# Altium footprint library IM_v1.0.PcbLib: 78 footprints (part 3 of 5)
Each footprint in its own frame and in the unit in brackets; x right, y up, seen from the top. Pads: shape width x height; smd on the part's side, far side on the other; paste and mask are expansions set on the pad; w line width, h text height; cw(c..) or ccw(c..) is an arc to the next point about the centre after c.
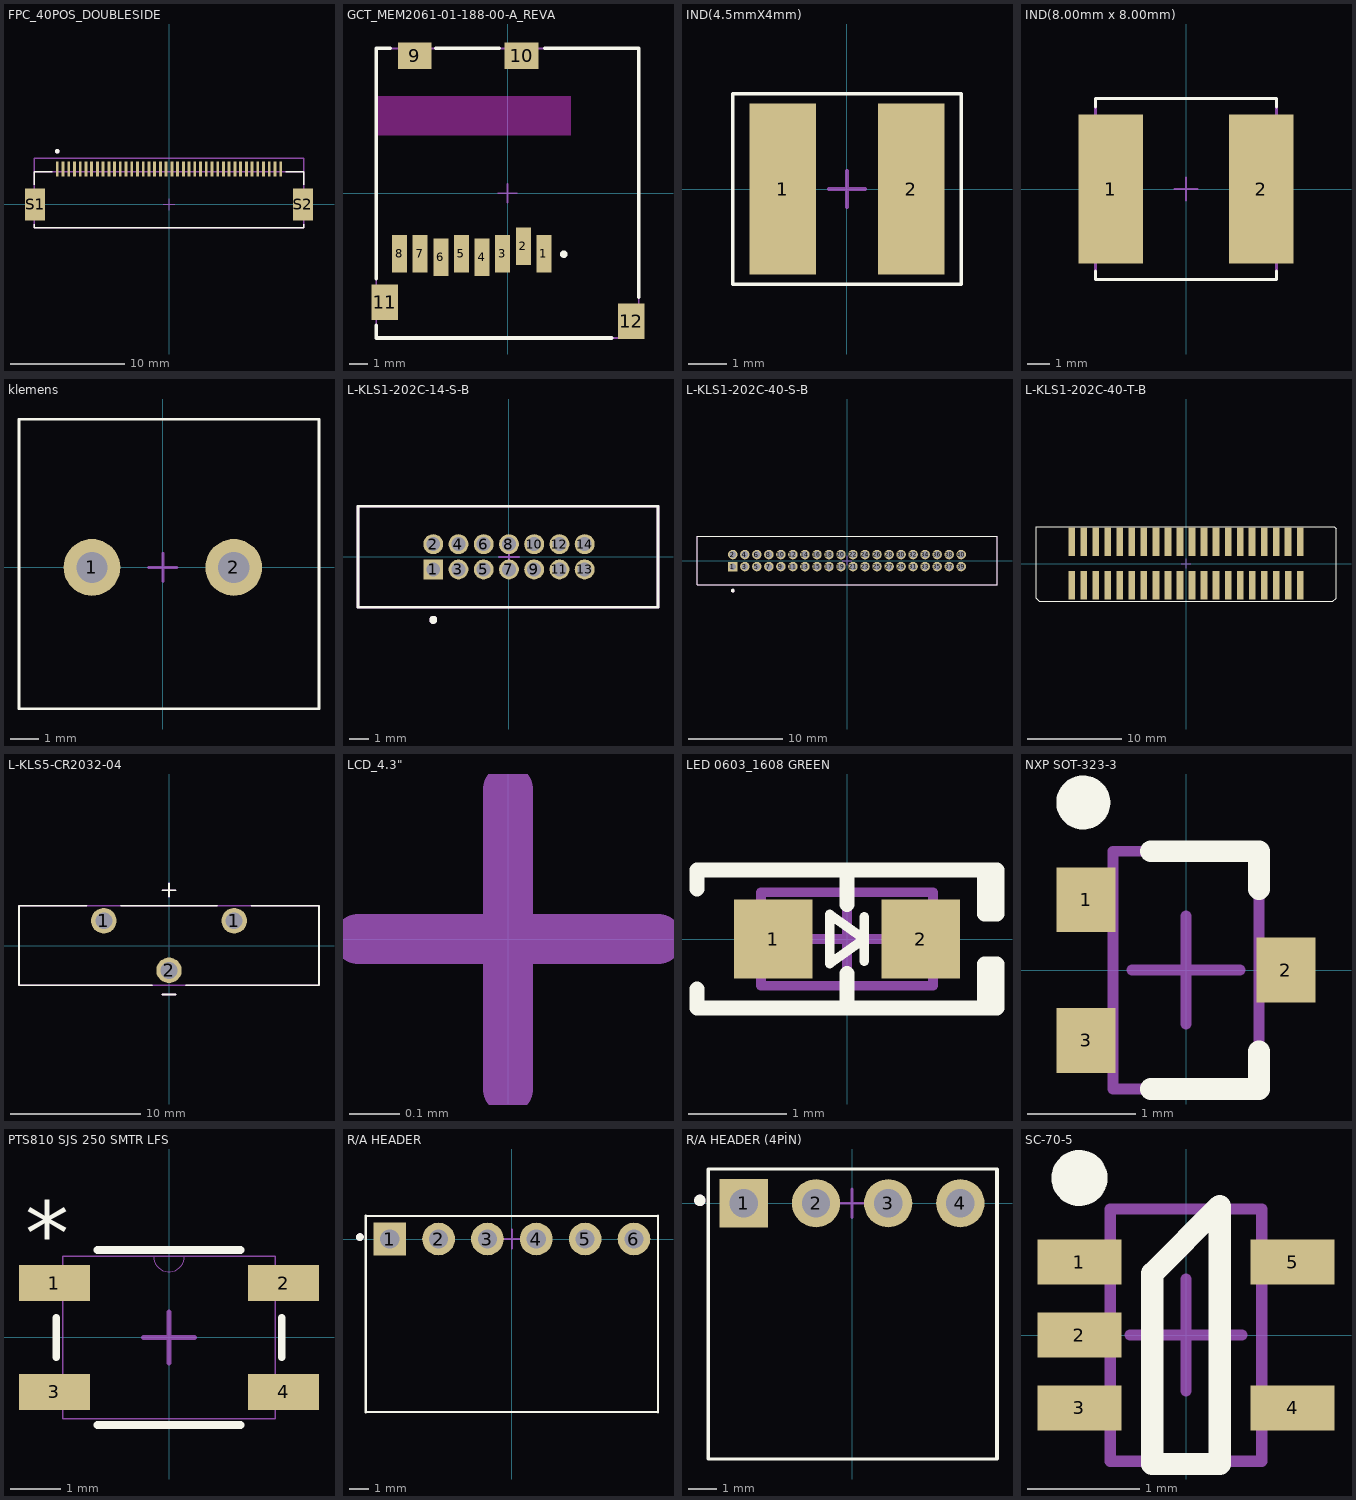
[diagram p2: the footprints below, top view; thin cyan lines are the x and y axes]

## FPC_40POS_DOUBLESIDE [mm]
pads (42):
  rect 0.25x1.3 smd: 1(-9.75,3.08) 2(-9.25,3.08) 3(-8.75,3.08) 4(-8.25,3.08) 5(-7.75,3.08) 6(-7.25,3.08) 7(-6.75,3.08) 8(-6.25,3.08) 9(-5.75,3.08) 10(-5.25,3.08) 11(-4.75,3.08) 12(-4.25,3.08) 13(-3.75,3.08) 14(-3.25,3.08) 15(-2.75,3.08) 16(-2.25,3.08) 17(-1.75,3.08) 18(-1.25,3.08) 19(-0.75,3.08) 20(-0.25,3.08) 21(0.25,3.08) 22(0.75,3.08) 23(1.25,3.08) 24(1.75,3.08) 25(2.25,3.08) 26(2.75,3.08) 27(3.25,3.08) 28(3.75,3.08) 29(4.25,3.08) 30(4.75,3.08) 31(5.25,3.08) 32(5.75,3.08) 33(6.25,3.08) 34(6.75,3.08) 35(7.25,3.08) 36(7.75,3.08) 37(8.25,3.08) 38(8.75,3.08) 39(9.25,3.08) 40(9.75,3.08)
  rect 1.73x2.8 smd: S1(-11.69,0) S2(11.69,0)
Top Overlay:
  circle w0.2: c-9.75,4.65 r0.1
  lines w0.127: -11.75,-1.72 -11.75,-2.05 11.75,-2.05 11.75,-1.72 ; -11.75,1.72 -11.75,2.85 -10.195,2.85 ; 10.195,2.85 11.75,2.85 11.75,1.72
Mechanical 13:
  lines w0.127: -11.75,2.85 -11.75,-2.05 11.75,-2.05 11.75,2.85 ; -11.75,2.85 11.75,2.85 ; -11.75,2.85 -11.75,4.02 11.75,4.02 11.75,2.85
Route Tool Path (Mech13):
  circle w0.2: c-9.75,4.65 r0.1
Mechanical 7:
  lines w0.1: -0.5,0 0.5,0 ; 0,-0.5 0,0.5
3D body "step_temp.STEP": height 3.21, standoff 0, extent -12.05,-2.05 12.05,3.27

## GCT_MEM2061-01-188-00-A_REVA [mm]
pads (12):
  rect 0.8x2 smd: 1(1.94,-3.225) 2(0.84,-2.825) 3(-0.26,-3.225) 4(-1.36,-3.425) 5(-2.46,-3.225) 6(-3.56,-3.425) 7(-4.66,-3.225) 8(-5.76,-3.225)
  rect 1.8x1.4 smd: 9(-4.95,7.325) 10(0.75,7.325)
  rect 1.4x1.9 smd: 11(-6.55,-5.825) 12(6.6,-6.825)
Top Overlay:
  circle w0.2: c3,-3.25 r0.1
  lines w0.2: -7,-7.05 -7,-7.725 5.55,-7.725 ; -7,-4.55 -7,7.725 -6.274,7.725 ; -3.81,7.725 -0.457,7.725 ; 1.981,7.725 7,7.725 7,-5.55
Keep-Out Layer:
  region: 3.37,3.1 -7.011,3.1 -7.011,5.175 3.37,5.175
Mechanical 13:
  lines w0.1: -7,-7.725 7,-7.725 7,7.725 -7,7.725 -7,-7.725
Mechanical 7:
  lines w0.1: -0.5,0 0.5,0 ; 0,-0.5 0,0.5
3D body "step_temp.STEP": height 1.88, standoff 0, extent -7.1,-7.725 7.1,7.725

## IND(4.5mmX4mm) [mm]
pads (2):
  rect 1.75x4.5 smd: 1(-1.687,0) 2(1.687,0)
Top Overlay:
  lines w0.1: -3,-2.5 -3,2.5 -2.75,2.5 3,2.5 3,-2.5 -3,-2.5
Mechanical 7:
  lines w0.1: -0.475,0 0.475,0 ; 0,-0.475 0,0.475
3D body "sdr0403.stp": height 3.2, standoff 0, extent -2.239,-2.25 2.239,2.25

## IND(8.00mm x 8.00mm) [mm]
pads (2):
  rect 2.85x6.6 smd: 1(-3.325,0) 2(3.325,0)
Top Overlay:
  lines w0.127: -4,-3.615 -4,-4 4,-4 4,-3.615 ; -4,3.615 -4,4 4,4 4,3.615
Mechanical 13:
  lines w0.127: -4,-4 4,-4 4,4 -4,4 -4,-4
Mechanical 7:
  lines w0.1: -0.5,0 0.5,0 ; 0,-0.5 0,0.5
3D body "step_temp.STEP": height 4, standoff 0, extent -4,-4 4,4

## klemens [mm]
pads (2):
  round 2 hole 1.1: 1(-2.5,0) 2(2.5,0)
Top Overlay:
  lines w0.1: -5.069,-4.981 -5.069,5.219 5.501,5.219 5.501,-4.981 -5.069,-4.981
Mechanical 7:
  lines w0.1: -0.5,0 0.5,0 ; 0,-0.5 0,0.5
3D body "DG128-5.0-02P-14-1000A&Z(H).stp": height 14, standoff -3.5, extent -5.069,-4.981 5.501,5.219

## L-KLS1-202C-14-S-B [mm]
pads (14):
  rect 1x1 hole 0.7: 1(-3.81,-0.635)
  round 1 hole 0.7: 2(-3.81,0.635) 3(-2.54,-0.635) 4(-2.54,0.635) 5(-1.27,-0.635) 6(-1.27,0.635) 7(0,-0.635) 8(0,0.635) 9(1.27,-0.635) 10(1.27,0.635) 11(2.54,-0.635) 12(2.54,0.635) 13(3.81,-0.635) 14(3.81,0.635)
Top Overlay:
  circle w0.2: c-3.81,-3.175 r0.1
  lines w0.127: -7.595,-2.55 -7.595,2.55 7.5,2.55 7.5,-2.55 -7.595,-2.55
Route Tool Path (Mech13):
  circle w0.2: c-3.81,-3.175 r0.1
  lines w0.127: -7.595,-2.55 -7.595,2.55 7.5,2.55 7.5,-2.55 -7.595,-2.55
Mechanical 7:
  lines w0.1: -0.5,0 0.5,0 ; 0,-0.5 0,0.5
3D body "20021511-00014T4LF.STEP": height 5.4, standoff -2.3, extent -7.595,-2.55 7.595,2.55

## L-KLS1-202C-40-S-B [mm]
pads (40):
  rect 1x1 hole 0.7: 1(-12.065,-0.635)
  round 1 hole 0.7: 2(-12.065,0.635) 3(-10.795,-0.635) 4(-10.795,0.635) 5(-9.525,-0.635) 6(-9.525,0.635) 7(-8.255,-0.635) 8(-8.255,0.635) 9(-6.985,-0.635) 10(-6.985,0.635) 11(-5.715,-0.635) 12(-5.715,0.635) 13(-4.445,-0.635) 14(-4.445,0.635) 15(-3.175,-0.635) 16(-3.175,0.635) 17(-1.905,-0.635) 18(-1.905,0.635) 19(-0.635,-0.635) 20(-0.635,0.635) 21(0.635,-0.635) 22(0.635,0.635) 23(1.905,-0.635) 24(1.905,0.635) 25(3.175,-0.635) 26(3.175,0.635) 27(4.445,-0.635) 28(4.445,0.635) 29(5.715,-0.635) 30(5.715,0.635) 31(6.985,-0.635) 32(6.985,0.635) 33(8.255,-0.635) 34(8.255,0.635) 35(9.525,-0.635) 36(9.525,0.635) 37(10.795,-0.635) 38(10.795,0.635) 39(12.065,-0.635) 40(12.065,0.635)
Top Overlay:
  circle w0.2: c-12.065,-3.175 r0.1
  lines w0.127: -15.85,-2.55 15.85,-2.55 15.85,2.55 -15.85,2.55 -15.85,-2.55
Route Tool Path (Mech13):
  circle w0.2: c-12.065,-3.175 r0.1
  lines w0.127: -15.85,-2.55 15.85,-2.55 15.85,2.55 -15.85,2.55 -15.85,-2.55
Mechanical 7:
  lines w0.1: -0.5,0 0.5,0 ; 0,-0.5 0,0.5
3D body "3220-40-0100-00.STEP": height 5.4, standoff -2.1, extent -15.85,-2.55 15.85,2.55

## L-KLS1-202C-40-T-B [mm] "BOX HEADER 40PIN(2x20) 1.27mm SMT V/T MALE BLACK"
pads (40):
  rect 0.7x3 smd: 1(-12.065,-2.3) 2(-12.065,2.3) 3(-10.795,-2.3) 4(-10.795,2.3) 5(-9.525,-2.3) 6(-9.525,2.3) 7(-8.255,-2.3) 8(-8.255,2.3) 9(-6.985,-2.3) 10(-6.985,2.3) 11(-5.715,-2.3) 12(-5.715,2.3) 13(-4.445,-2.3) 14(-4.445,2.3) 15(-3.175,-2.3) 16(-3.175,2.3) 17(-1.905,-2.3) 18(-1.905,2.3) 19(-0.635,-2.3) 20(-0.635,2.3) 21(0.635,-2.3) 22(0.635,2.3) 23(1.905,-2.3) 24(1.905,2.3) 25(3.175,-2.3) 26(3.175,2.3) 27(4.445,-2.3) 28(4.445,2.3) 29(5.715,-2.3) 30(5.715,2.3) 31(6.985,-2.3) 32(6.974,2.3) 33(8.255,-2.3) 34(8.255,2.3) 35(9.525,-2.3) 36(9.525,2.3) 37(10.795,-2.3) 38(10.784,2.3) 39(12.065,-2.3) 40(12.054,2.3)
Top Overlay:
  lines w0.1: -15.85,-3.65 -15.5,-4 15.5,-4 15.85,-3.65 15.85,3.7 15.65,3.9 -15.85,3.9 -15.85,2.75 -15.85,-3.65
Mechanical 7:
  lines w0.1: -0.5,0 0.5,0 ; 0,-0.5 0,0.5
3D body "3220-40-0300-00.STEP": height 5.6, standoff 0, extent -15.85,-2.75 15.85,2.75

## L-KLS5-CR2032-04 [mm]
pads (3):
  round 1.95 hole 1.3: 1(-5,1.9) 1(5,1.9) 2(0,-1.9)
Top Overlay:
  lines w0.127: -6.295,3.05 -11.5,3.05 -11.5,-3.05 -1.295,-3.05 ; -3.705,3.05 3.705,3.05 ; -0.5,-3.75 0.5,-3.75 ; -0.5,4.25 0.5,4.25 ; 0,3.75 0,4.75 ; 1.295,-3.05 11.5,-3.05 11.5,3.05 6.295,3.05
Mechanical 13:
  lines w0.127: -11.5,-3.05 11.5,-3.05 11.5,3.05 -11.5,3.05 -11.5,-3.05
Route Tool Path (Mech13):
  lines w0.127: -0.5,-3.75 0.5,-3.75 ; -0.5,4.25 0.5,4.25 ; 0,3.75 0,4.75
3D body "step_temp.STEP": height 18.38, standoff -3.02, extent -11.488,-3.048 11.488,3.052

## LCD_4.3" [mm]
Mechanical 7:
  lines w0.1: -0.3,0 0,0 ; 0,-0.3 0,0 ; 0,0.3 0,0 ; 0.3,0 0,0
3D body "NHD-4.3-480272EF-AXSP-CTP - Copy.STEP": height 6.33, standoff 1.68, extent -52.75,-56.435 52.75,56.435

## LED 0603_1608 GREEN [mm] "Chip Diode, 2-Leads, Body 1.60x0.80mm, IPC Medium Density"
height 0.45
pads (2):
  rect 0.8x0.8 smd: 1(-0.75,0) 2(0.75,0)
Top Overlay:
  lines w0.1: 0.175,-0.225 0.175,0 ; 0.175,0.225 0.175,0 ; 0.175,0 -0.175,-0.25 -0.175,0 -0.175,0.25 0.175,0
  lines w0.15: -1.524,-0.508 -1.524,-0.7 1.5,-0.7 ; -1.524,0.508 -1.524,0.7 1.5,0.7 ; 0,-0.7 0,-0.35 ; 0,0.35 0,0.7 ; 1.397,-0.7 1.524,-0.7 1.524,-0.254 1.397,-0.254 1.397,-0.7 ; 1.397,0.254 1.524,0.254 1.524,0.7 1.397,0.7 1.397,0.254
Mechanical 13:
  lines w0.1: -0.875,-0.475 -0.875,0.475 0.875,0.475 0.875,-0.475 -0.875,-0.475
Mechanical 7:
  lines w0.1: -0.475,0 0.475,0 ; 0,-0.475 0,0.475
3D body "LED 0603 Base GREEN.STEP": height 0.28, standoff 0, extent -0.8,-0.4 0.8,0.4
3D body "LED 0603 Lens GREEN.STEP": height 0.53, standoff 0.18, extent -0.55,-0.4 0.55,0.4

## NXP SOT-323-3 [mm] "SOT323, 3-Leads, Body 2.00x2.10mm, Pitch 0.65mm, IPC Medium Density"
height 1
pads (3):
  rect 0.55x0.6 smd: 1(-0.925,0.65) 2(0.925,0) 3(-0.925,-0.65)
Top Overlay:
  circle w0.25: c-0.95,1.55 r0.125
  lines w0.2: -0.325,-1.1 0.675,-1.1 0.675,-0.75 ; -0.325,1.1 0.675,1.1 0.675,0.75
Mechanical 13:
  lines w0.1: -0.675,-1.1 -0.675,1.1 0.675,1.1 0.675,-1.1 -0.675,-1.1
Mechanical 7:
  lines w0.1: -0.5,0 0.5,0 ; 0,-0.5 0,0.5
3D body "sot-323.STEP": height 1, standoff 0, extent -1.058,-1 1.058,1

## PTS810 SJS 250 SMTR LFS [mil]
pads (4):
  rect 55x28 smd mask+0: 1(-89,42.32) 2(89,42.32) 3(-89,-42.32) 4(89,-42.32)
Top Overlay:
  lines w6: -87.5,-15.22 -87.5,15.22 ; -55.55,-67.99 55.55,-67.99 ; -55.55,67.99 55.55,67.99 ; 87.5,-15.22 87.5,15.22
  text "*" at -111.5,56.32 h50
Mechanical 13:
  lines w0: -12,62.99 ccw(c0,62.99) 12,62.99
  lines w1: -102.5,-55.32 -102.5,-29.32 -82.5,-29.32 -82.5,-55.32 -102.5,-55.32 ; -102.5,29.32 -82.5,29.32 -82.5,55.32 -102.5,55.32 -102.5,29.32 ; -82.5,-62.99 82.5,-62.99 82.5,62.99 -82.5,62.99 -82.5,-62.99 ; 82.5,-55.32 102.5,-55.32 102.5,-29.32 82.5,-29.32 82.5,-55.32 ; 82.5,29.32 82.5,55.32 102.5,55.32 102.5,29.32 82.5,29.32
Mechanical 7:
  lines w3.94: -19.69,0 19.68,0 ; 0,-19.68 0,19.68
3D body "PTS810SJS250SMTR LFS.STEP": height 106.3, standoff 0, extent -90.55,-62.99 90.55,62.99

## R/A HEADER [mm]
pads (6):
  rect 1.7x1.7 hole 1: 1(-6.35,0)
  round 1.7 hole 1: 2(-3.81,0) 3(-1.27,0) 4(1.27,0) 5(3.81,0) 6(6.35,0)
Top Overlay:
  circle w0.2: c-7.9,0.1 r0.1
  lines w0.1: -7.6,-9 7.6,-9 ; -7.6,1.2 7.6,1.2
  lines w0.127: -7.6,-9 -7.6,1.2 ; 7.6,-9 7.6,1.2
Route Tool Path (Mech13):
  circle w0.2: c-7.9,0.1 r0.1
Mechanical 7:
  lines w0.1: -0.5,0 0.5,0 ; 0,-0.5 0,0.5
3D body "022052061.stp": height 6.35, standoff -3.1, extent -7.493,-8.992 7.493,1.181

## R/A HEADER (4PİN) [mm]
pads (4):
  rect 1.7x1.7 hole 1: 1(-3.81,0)
  round 1.7 hole 1: 2(-1.27,0) 3(1.27,0) 4(3.81,0)
Top Overlay:
  circle w0.2: c-5.36,0.1 r0.1
  lines w0.1: -5.06,-9 5.1,-9 ; -5.06,1.2 5.1,1.2
  lines w0.127: -5.06,-9 -5.06,1.2 ; 5.1,-9 5.1,1.2
Route Tool Path (Mech13):
  circle w0.2: c-5.36,0.1 r0.1
Mechanical 7:
  lines w0.1: -0.5,0 0.5,0 ; 0,-0.5 0,0.5
3D body "022052041.stp": height 6.35, standoff -3.1, extent -4.953,-8.992 4.953,1.181

## SC-70-5 [mm] "SC70, 5-Leads, Body 2.03x2.10mm, Pitch 0.65mm, IPC Medium Density"
height 1.1
pads (5):
  rect 0.75x0.4 smd: 1(-0.95,0.65) 2(-0.95,0) 3(-0.95,-0.65) 4(0.95,-0.65) 5(0.95,0.65)
Top Overlay:
  circle w0.25: c-0.95,1.4 r0.125
  lines w0.2: -0.3,-1.15 0.3,-1.15 0.3,1.15 -0.3,0.55 -0.3,-1.15
Mechanical 13:
  lines w0.1: -0.675,-1.125 0.675,-1.125 0.675,1.125 -0.675,1.125 -0.675,-1.125
Mechanical 7:
  lines w0.1: -0.5,0 0.5,0 ; 0,-0.5 0,0.5
3D body "MICREL SC-70-5 C5.step": height 1.1, standoff 0, extent -1.2,-1.125 1.2,1.125